# Altium schematic symbol library RPSLib_PMIC.SchLib: 32 symbols (part 2 of 2)
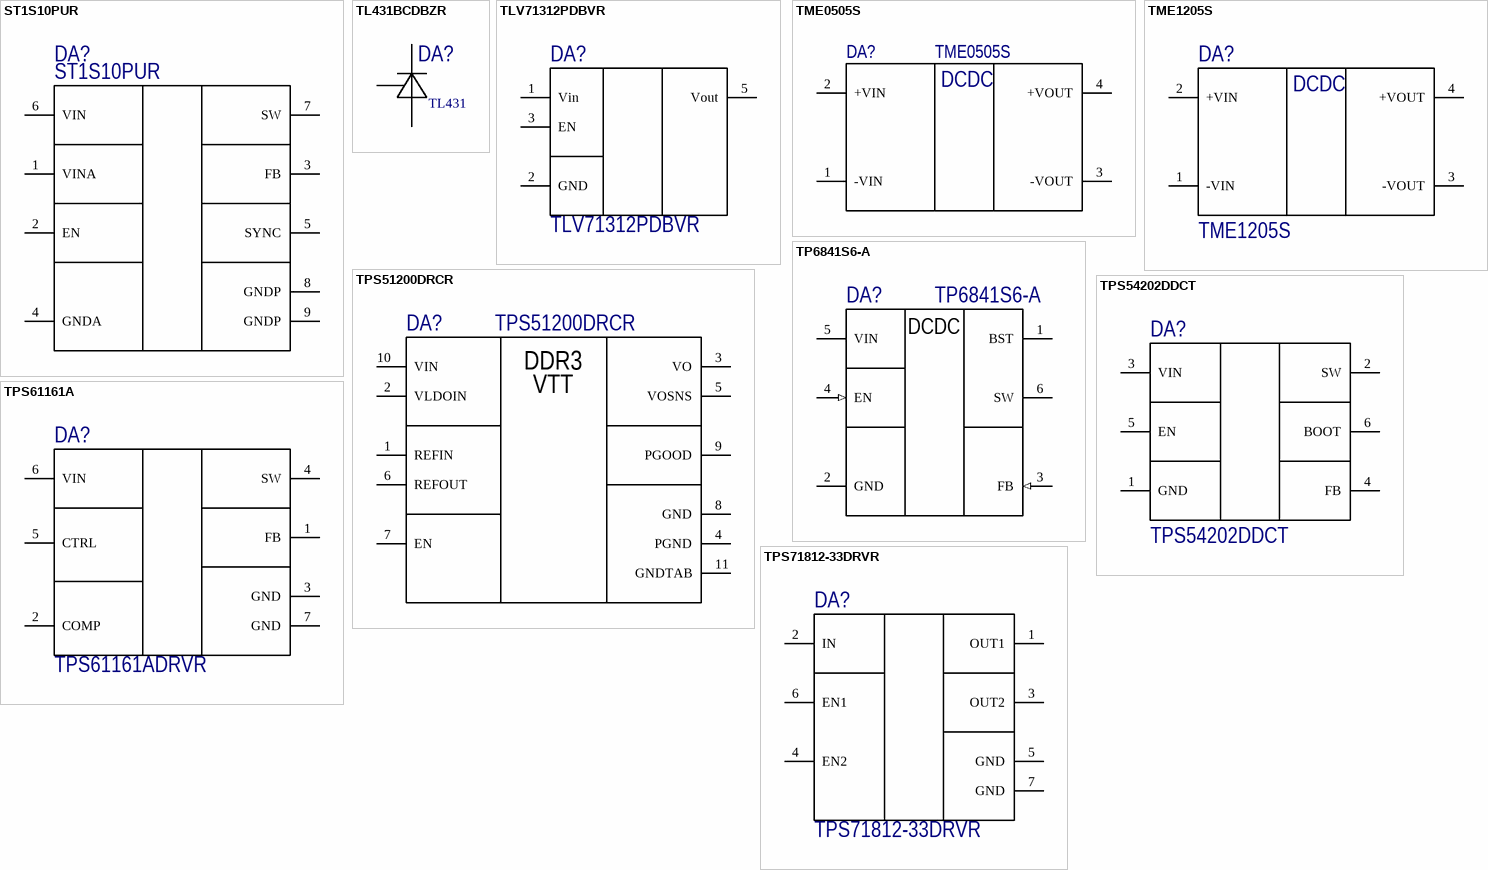
[diagram p2: symbols ST1S10PUR to TPS71812-33DRVR]

## TPS71812-33DRVR
designator DA?
IC REG LIN 1.2V/3.3V 200MA 6SON; Manufacturer: Texas Instruments; Max Power Dissipation: 1.053W; Dropout Voltage: 230mV; Number of Outputs: 2; Output Voltage: 3.3V; Max Input Voltage: 6.5V; Min Input Voltage: 2.7V; Min Current Limit: 240mA; Input Bias Current: 90uA; Polarity: Positive; Output Voltage Accuracy: 2.5%; Output Type: Fixed; РКД Наименование: TPS71812-33DRVR - Регулятор напряжения; Supplier 1: Digi-Key; Manufacturer Part Number: TPS71812-33DRVR; Stock 1: 2420; Pricing 1: 1=1.72, 10=1.545, 100=1.2417, 500=1.0202, 1000=0.8453 (USD); Number of Pins: 6; Min Operating Temperature: -40°C; Max Operating Temperature: 125°C; Package Quantity: 1; Output Current: 200mA; Packaging: Tape and Reel; Max Output Current: 200mA; Number of Regulators: 2; Power Dissipation: 1.053W; Accuracy: 2.5%; Quiescent Current: 90uA; Radiation Hardening: No; Lead Free: Lead Free; ComponentLink1URL: http://www.ti.com/lit/ds/symlink/tps718.pdf?src-supplier=Digi-Key; ComponentLink1Description: http://www.ti.com/lit/ds/symlink/tps718.pdf?src-supplier=Digi-Key; ComponentLink2URL: http://www.ti.com/general/docs/lit/getliterature.tsp?genericPartNumber=TPS71928-28&&fileType=pdf&src-supplier=Avnet; ComponentLink2Description: http://www.ti.com/general/docs/lit/getliterature.tsp?genericPartNumber=TPS71928-28&&fileType=pdf&src-supplier=Avnet; Supplier Part Number 1: 296-22009-1-ND
footprint PSON65P200X80_HS-7N (PSON, 6-Leads, Body 2,00x2,00mm, Pitch 0,65mm, Thermal Pad 1,60x0,96mm, IPC Medium Density)
pins: 1 OUT1, 2 IN, 3 OUT2, 4 EN2, 5 GND, 6 EN1, 7 GND